# Altium schematic symbol library Connectors.SchLib: 14 symbols
Pins are listed as number, name and electrical type; pins without a type are passive.

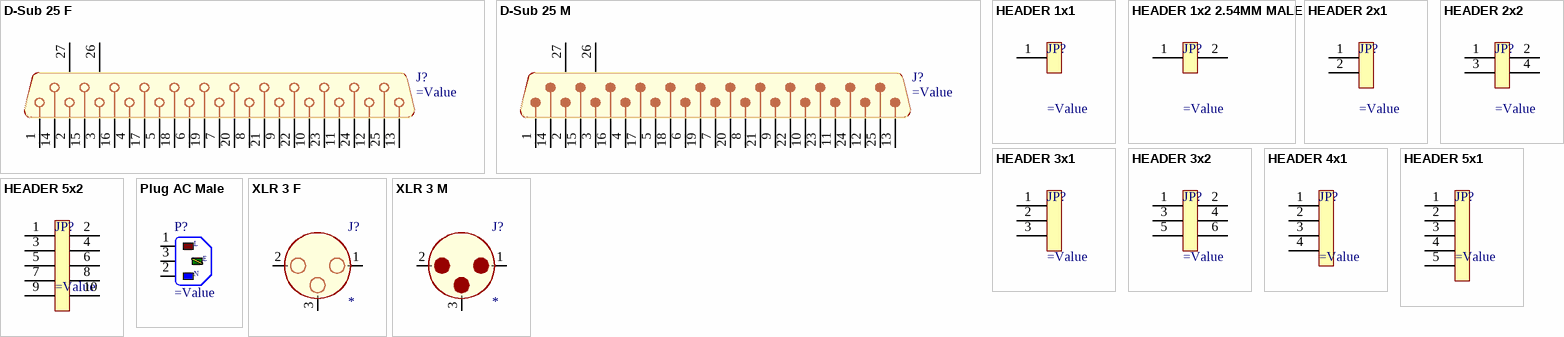
[diagram p0: symbols D-Sub 25 F to XLR 3 M]

## D-Sub 25 F
designator J?
D-SUB25 Position, Right Angle female; PackageDocument: U; Positions: 25; Gender: Receptacle; Published: 15-Jun-2001; LatestRevisionDate: 17-Jul-2002; LatestRevisionNote: Re-released for DXP Platform.; DatasheetDocument: 19-Mar-1999; PackageReference: 787202; Publisher: Altium Limited; Orientation: Right Angle
pins: 1, 2, 3, 4, 5, 6, 7, 8, 9, 10, 11, 12, 13, 14, 15, 16, 17, 18, 19, 20, 21, 22, 23, 24, 25, 26 MH1, 27 MH2

## D-Sub 25 M
designator J?
D-SUB25 Position, Right Angle male; PackageDocument: U; Positions: 25; Gender: Receptacle; Published: 15-Jun-2001; LatestRevisionDate: 17-Jul-2002; LatestRevisionNote: Re-released for DXP Platform.; DatasheetDocument: 19-Mar-1999; PackageReference: 787202; Publisher: Altium Limited; Orientation: Right Angle
pins: 1, 2, 3, 4, 5, 6, 7, 8, 9, 10, 11, 12, 13, 14, 15, 16, 17, 18, 19, 20, 21, 22, 23, 24, 25, 26 MH1, 27 MH2

## HEADER 1x1
designator JP?
2.54MM MALE
pins: 1

## HEADER 1x2 2.54MM MALE
designator JP?
DIL VERTICAL PC TAIL PIN HEADER
pins: 1, 2

## HEADER 2x1
designator JP?
HEADER 2x1
pins: 1, 2

## HEADER 2x2
designator JP?
HEADER 2x2
pins: 1, 2, 3, 4

## HEADER 3x1
designator JP?
HEADER 3x1
pins: 1, 2, 3

## HEADER 3x2
designator JP?
HEADER 3x2
pins: 1, 2, 3, 4, 5, 6

## HEADER 4x1
designator JP?
HEADER 4x1
pins: 1, 2, 3, 4

## HEADER 5x1
designator JP?
HEADER 5x1
pins: 1, 2, 3, 4, 5

## HEADER 5x2
designator JP?
HEADER 5x2
pins: 1, 2, 3, 4, 5, 6, 7, 8, 9, 10

## Plug AC Male
designator P?
AC Male Power Entry, IEC Mains Power Inlet; PackageDocument: ver.80, 15-Sep-2003; MaximumRating: 10A, 250V a.c. (UL & CSA 15A, 250V a.c.); MountingFixtures: Not drawn on schematic symbol.; PCB_Layout: Complies with manufacturer's recommendation.; DrillSize: Corresponds to nominal value.; Note: IEC Color Scheme employed for L, N and E.; Published: 15-Jul-2004; LatestRevisionDate: 15-Jul-2004; LatestRevisionNote: Component Replaced.; DatasheetDocument: ver.80, 15-Sep-2003; PackageReference: PX0580/PC; Publisher: Altium Limited; Terminations: P.C. Spills; ComponentLink1Description: Manufacturer Link; ComponentLink1URL: http://www.bulgin.co.uk/
pins: 1 L (power) "Live (Active)", 2 N (power) "Neutral", 3 E (power) "Earth (Ground)"

## XLR 3 F
designator J?
XLR Connector 3C FEMALE Receptacle; MF: Neutrik; MP: NC3FAH1; Availability: Unavailable; Package: None; SnapEDA_Link: https://www.snapeda.com/parts/NC3FAH1/Neutrik/view-part/?ref=snap; Price: None; Value: *
pins: 1, 2, 3

## XLR 3 M
designator J?
XLR Connector 3C MALE Receptacle; MF: Neutrik; MP: NC3FAH1; Availability: Unavailable; Package: None; SnapEDA_Link: https://www.snapeda.com/parts/NC3FAH1/Neutrik/view-part/?ref=snap; Price: None; Value: *
pins: 1, 2, 3